# EAGLE library part 621X4421021 (library Board-to-Board (rev18a))
WR-PHD 1.27mm Dual SMT Pin Header H=3.80 mm, 44 Pins=>Code : Con_BTB_PHD_1.27_2_621x4421021(Packaging:x = 0: Tube x = 3: Tape & Reel with Cap) <http://katalog.we-online.de/media/thumbs2/eican/thb_Con_BTB_PHD_1.27_2_6210xx21021_pf2.jpg> 6210xx21021 Details see: http://katalog.we-online.de/en/em/621_0xx_210_21 6213xx21021 Details see: http://katalog.we-online.de/en/em/PHD_1_27_SMT_DUAL_PIN_HEADER_REEL_6213XX21021 2014 (C) Würth Elektronik
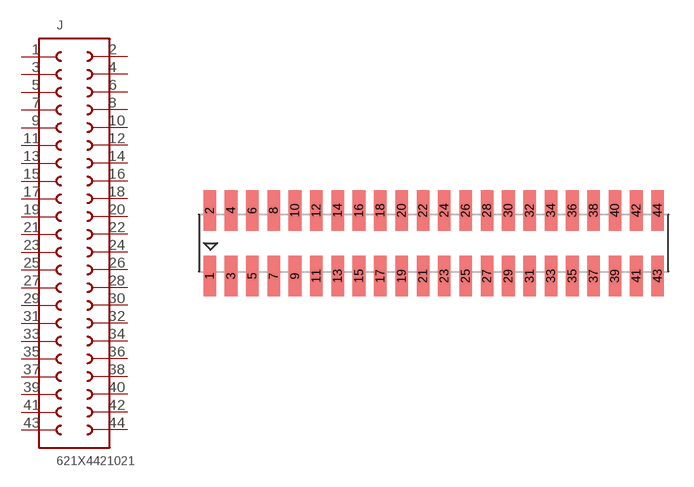
[diagram p284: symbol with the pads of 621X4421021; footprint 621X4421021]

Designator prefix J

## 621X4421021  [621X4421021]
1  1  pas
2  44  pas
3  2  pas
4  43  pas
5  3  pas
6  42  pas
7  4  pas
8  41  pas
9  5  pas
10  40  pas
11  6  pas
12  39  pas
13  7  pas
14  38  pas
15  8  pas
16  37  pas
17  9  pas
18  36  pas
19  10  pas
20  35  pas
21  11  pas
22  34  pas
23  12  pas
24  33  pas
25  13  pas
26  32  pas
27  14  pas
28  31  pas
29  15  pas
30  30  pas
31  16  pas
32  29  pas
33  17  pas
34  28  pas
35  18  pas
36  27  pas
37  19  pas
38  26  pas
39  20  pas
40  25  pas
41  21  pas
42  24  pas
43  22  pas
44  23  pas

## Footprint 621X4421021 (pad centres in mm)
WR-PHD 1.27mm Dual SMT Pin Header H=3.80 mm, 44 Pins
smd 0.75 x 2.4: 1 -13.335,-1.95; 2 -13.335,1.95; 3 -12.065,-1.95; 4 -12.065,1.95; 5 -10.795,-1.95; 6 -10.795,1.95; 7 -9.525,-1.95; 8 -9.525,1.95; 9 -8.255,-1.95; 10 -8.255,1.95; 11 -6.985,-1.95; 12 -6.985,1.95; 13 -5.715,-1.95; 14 -5.715,1.95; 15 -4.445,-1.95; 16 -4.445,1.95; 17 -3.175,-1.95; 18 -3.175,1.95; 19 -1.905,-1.95; 20 -1.905,1.95; 21 -0.635,-1.95; 22 -0.635,1.95; 23 0.635,-1.95; 24 0.635,1.95; 25 1.905,-1.95; 26 1.905,1.95; 27 3.175,-1.95; 28 3.175,1.95; 29 4.445,-1.95; 30 4.445,1.95; 31 5.715,-1.95; 32 5.715,1.95; 33 6.985,-1.95; 34 6.985,1.95; 35 8.255,-1.95; 36 8.255,1.95; 37 9.525,-1.95; 38 9.525,1.95; 39 10.795,-1.95; 40 10.795,1.95; 41 12.065,-1.95; 42 12.065,1.95; 43 13.335,-1.95; 44 13.335,1.95